# Altium footprint library 1150R ANTENNA.PcbLib: 1 footprints
Each footprint in its own frame and in the unit in brackets; x right, y up, seen from the top. Pads: shape width x height; smd on the part's side, far side on the other; paste and mask are expansions set on the pad; w line width, h text height; cw(c..) or ccw(c..) is an arc to the next point about the centre after c.
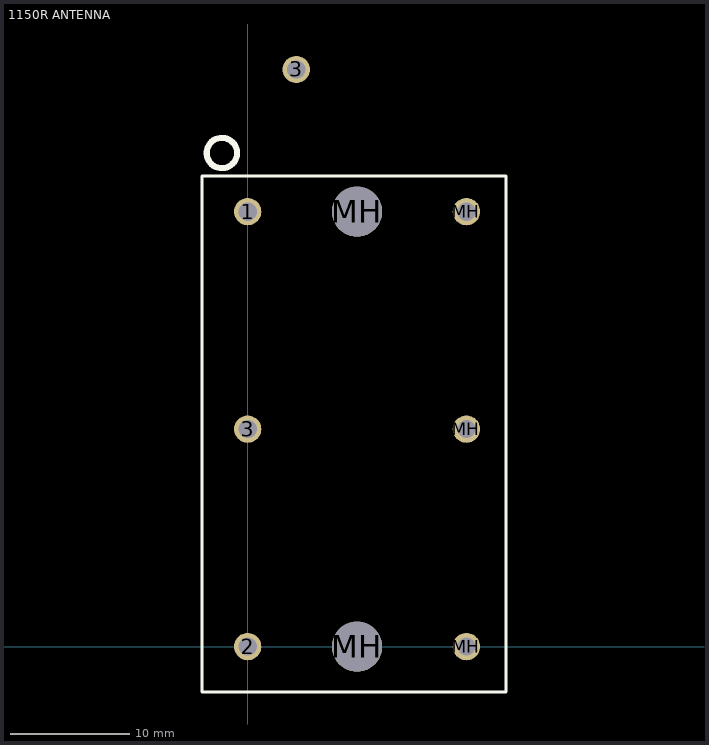
[diagram p0: the footprint, top view; thin cyan lines are the x and y axes]

## 1150R ANTENNA [mil]
height 390
pads (9):
  round 90 hole 60: 1(0,1432) 2(0,0) 3(0,716) 3(160,1900) MH(720,0) MH(720,716) MH(720,1432)
  round 165 hole 165 unplated: MH(360,0) MH(360,1432)
TopOverlay:
  circle w20: c-85,1625 r50
  lines w10: -150,-150 -150,1550 850,1550 850,-150 -150,-150
3D body: height 890.49, standoff -94.5, extent -62.26,-1166.99 778.26,2583